# Altium schematic symbol library SCH-27516_C3_16_2_Library.SchLib: 105 symbols (part 2 of 2)
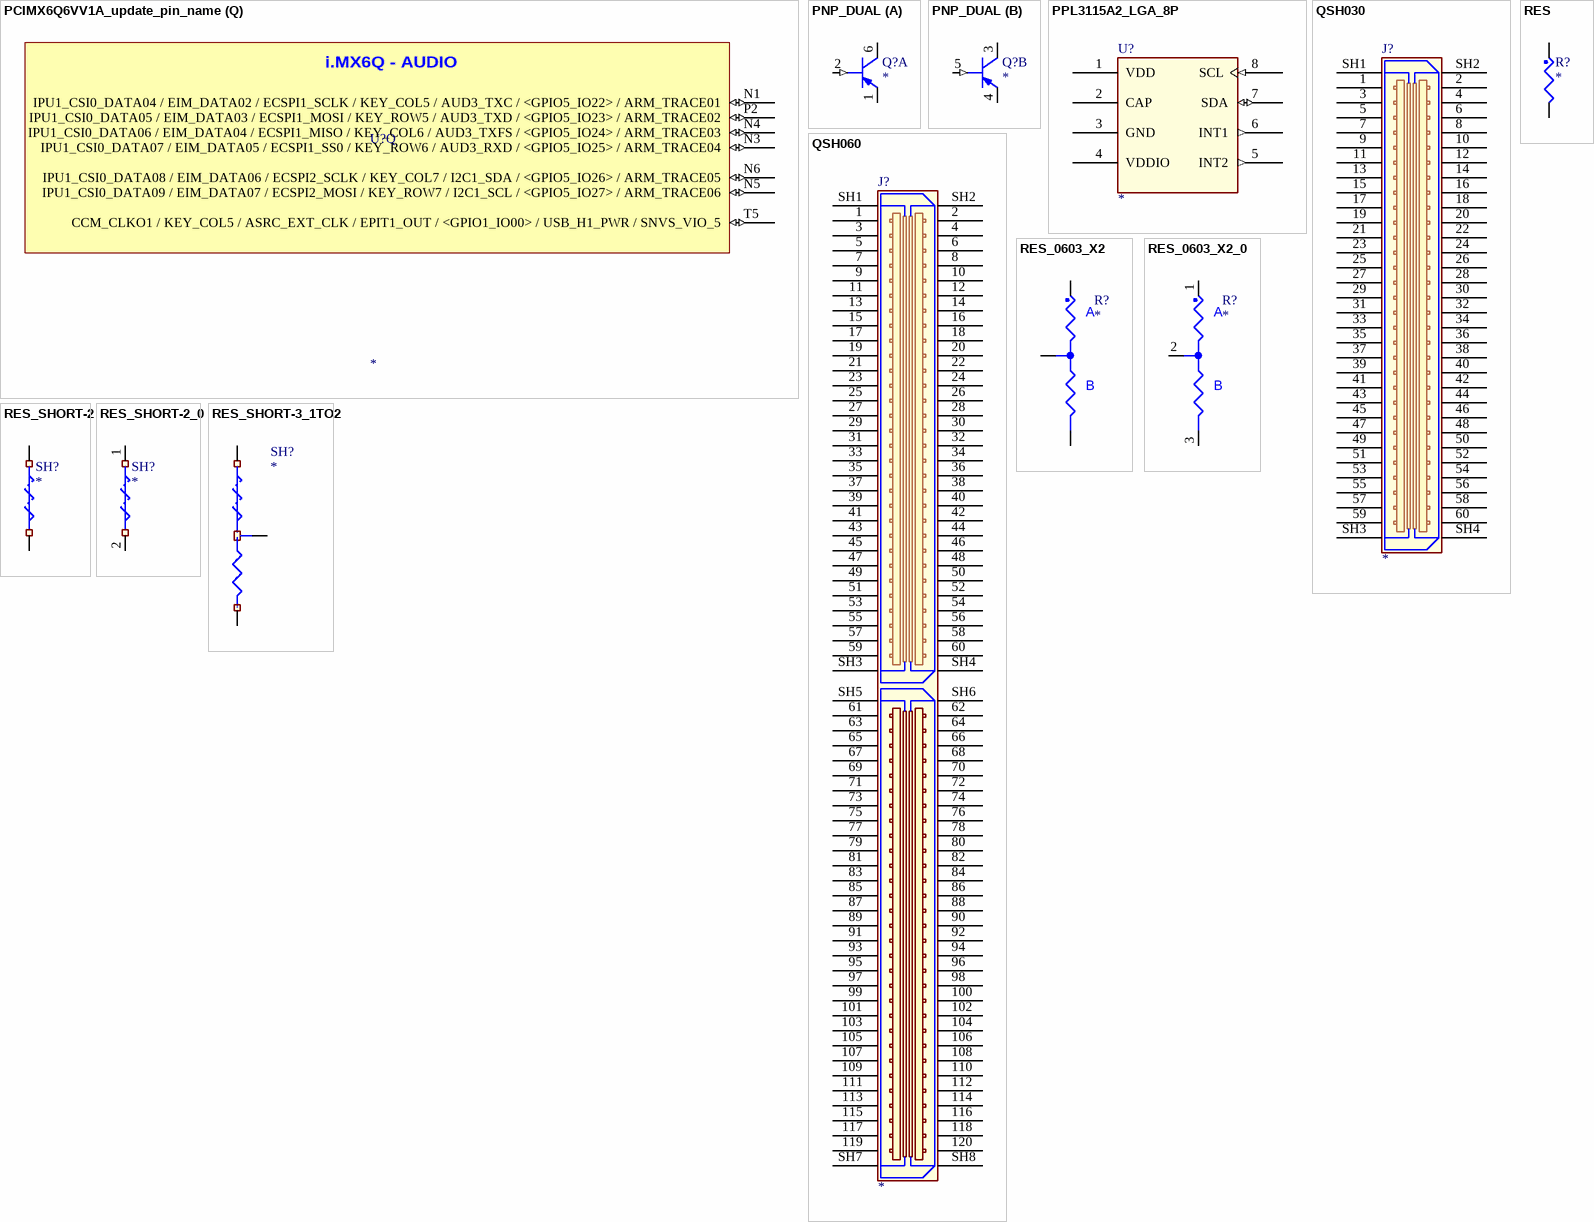
[diagram p16: symbols PCIMX6Q6VV1A_update_pin_name to RES_SHORT-3_1TO2]

## PCIMX6Q6VV1A_update_pin_name
designator U?
CLASS: IC; .Creator: MM
part A pins: C25 EIM_DATA16 / ECSPI1_SCLK / IPU1_DI0_PIN05 / IPU1_CSI1_DATA18 / HDMI_TX_DDC_SDA / <GPIO3_IO16> / I2C2_SDA / EPDC_DATA10 (io), D24 EIM_DATA18 / ECSPI1_MOSI / IPU1_DI0_PIN07 / IPU1_CSI1_DATA17 / IPU1_DI1_D0_CS / <GPIO3_IO18> / I2C3_SDA / EPDC_VCOM1 (io), D25 EIM_DATA23 / IPU1_DI0_D0_CS / UART3_CTS_B / UART1_DCD_B / IPU1_CSI1_DATA_EN / <GPIO3_IO23> / IPU1_DI1_PIN02 / IPU1_DI1_PIN14 / EPDC_DATA11 (io), E22   EIM_EB2 / ECSPI1_SS0 / IPU1_CSI1_DATA19 / HDMI_TX_DDC_SCL / <GPIO2_IO30> / I2C2_SCL / SRC_BOOT_CFG30 / EPDC_DATA05 (io), E23   EIM_DATA22 / ECSPI4_MISO / IPU1_DI0_PIN01 / IPU1_CSI1_DATA10 / USB_OTG_PWR / <GPIO3_IO22> / SPDIF_OUT / EPDC_SDCE6 (io), E24 EIM_DATA26 / IPU1_DI1_PIN11 / IPU1_CSI0_DATA01 / IPU1_CSI1_DATA14 / UART2_TX_DATA / <GPIO3_IO26> / IPU1_SISG2 / IPU1_DISP1_DATA22 / EPDC_SDOED (io), E25 EIM_DATA27 / IPU1_DI1_PIN13 / IPU1_CSI0_DATA00 / IPU1_CSI1_DATA13 / UART2_RX_DATA / <GPIO3_IO27> / IPU1_SISG3 / IPU1_DISP1_DATA23 / EPDC_SDOE (io), F21 EIM_DATA17 / ECSPI1_MISO / IPU1_DI0_PIN06 / IPU1_CSI1_PIXCLK / DCIC1_OUT / <GPIO3_IO17> / I2C3_SCL / EPDC_VCOM0 (io), F22   EIM_DATA24 / ECSPI4_SS2 / UART3_TX_DATA / ECSPI1_SS2 / ECSPI2_SS2 / <GPIO3_IO24> / AUD5_RXFS / UART1_DTR_B / EPDC_SDCE7 (io), F23 EIM_EB3 / ECSPI4_RDY / UART3_RTS_B / UART1_RI_B / IPU1_CSI1_HSYNC / <GPIO2_IO31> / IPU1_DI1_PIN03 / SRC_BOOT_CFG31 / EPDC_SDCE0 / EIM_ACLK_FREERUN (io), F24 <EIM_ADDR22> / PU1_DISP1_DATA17 / IPU1_CSI1_DATA17 / GPIO2_IO16 / SRC_BOOT_CFG22 / EPDC_GDSP (io), F25 <EIM_ADDR24> / IPU1_DISP1_DATA19 / IPU1_CSI1_DATA19 / IPU1_SISG2 / GPIO5_IO04 / SRC_BOOT_CFG24 / EPDC_GDRL (io), G20 EIM_DATA20 / ECSPI4_SS0 / IPU1_DI0_PIN16 / IPU1_CSI1_DATA15 / UART1_RTS_B / <GPIO3_IO20> / EPIT2_OUT (io), G21   EIM_DATA19 / ECSPI1_SS1 / IPU1_DI0_PIN08 / IPU1_CSI1_DATA16 / UART1_CTS_B / <GPIO3_IO19> / EPIT1_OUT / EPDC_DATA12 (io), G22   EIM_DATA25 / ECSPI4_SS3 / UART3_RX_DATA / ECSPI1_SS3 / ECSPI2_SS3 / <GPIO3_IO25> / AUD5_RXC / UART1_DSR_B / EPDC_SDCE8 (io), G23 EIM_DATA28 / I2C1_SDA / ECSPI4_MOSI / IPU1_CSI1_DATA12 / UART2_CTS_B / <GPIO3_IO28> / IPU1_EXT_TRIG / IPU1_DI0_PIN13 / EPDC_PWR_CTRL3 (io), G24 <EIM_ADDR17> / IPU1_DISP1_DATA12 / IPU1_CSI1_DATA12 / GPIO2_IO21 / SRC_BOOT_CFG17 / EPDC_PWR_STAT (io), G25   <EIM_ADDR19> / IPU1_DISP1_DATA14 / IPU1_CSI1_DATA14 / GPIO2_IO19 / SRC_BOOT_CFG19 / EPDC_PWR_CTRL1 (io), H19 <EIM_ADDR25> / ECSPI4_SS1 / ECSPI2_RDY / IPU1_DI1_PIN12 / IPU1_DI0_D1_CS / GPIO5_IO02 / HDMI_TX_CEC_LINE / EPDC_DATA15 / EIM_ACLK_FREERUN (io), H20 EIM_DATA21 / ECSPI4_SCLK / IPU1_DI0_PIN17 / IPU1_CSI1_DATA11 / USB_OTG_OC / <GPIO3_IO21> / I2C1_SCL / SPDIF_IN (io), H21 EIM_DATA31 / IPU1_DISP1_DATA20 / IPU1_DI0_PIN12 / IPU1_CSI0_DATA02 / UART3_RTS_B / <GPIO3_IO31> / USB_H1_PWR / EPDC_SDCLK_P / EIM_ACLK_FREERUN (io), H22 <EIM_ADDR20> / IPU1_DISP1_DATA15 / IPU1_CSI1_DATA15 / GPIO2_IO18 / SRC_BOOT_CFG20 / EPDC_PWR_CTRL2 (io), H23 <EIM_ADDR21> / IPU1_DISP1_DATA16 / IPU1_CSI1_DATA16 / GPIO2_IO17 / SRC_BOOT_CFG21 / EPDC_GDCLK (io), H24 <EIM_CS0> / IPU1_DI1_PIN05 / ECSPI2_SCLK / GPIO2_IO23 / EPDC_DATA06 (io), H25 <EIM_ADDR16> / IPU1_DI1_DISP_CLK / IPU1_CSI1_PIXCLK / GPIO2_IO22 / SRC_BOOT_CFG16 / EPDC_DATA00 (io), J19 EIM_DATA29 / IPU1_DI1_PIN15 / ECSPI4_SS0 / UART2_RTS_B / <GPIO3_IO29> / IPU1_CSI1_VSYNC / IPU1_DI0_PIN14 / EPDC_PWR_WAKE (io), J20   EIM_DATA30 / IPU1_DISP1_DATA21 / IPU1_DI0_PIN11 / IPU1_CSI0_DATA03 / UART3_CTS_B / <GPIO3_IO30> / USB_H1_OC / EPDC_SDOEZ (io), J21 <EIM_ADDR23> / IPU1_DISP1_DATA18 / IPU1_CSI1_DATA18 / IPU1_SISG3 / GPIO6_IO06 / SRC_BOOT_CFG23 / EPDC_GDOE (io), J22 <EIM_ADDR18> / IPU1_DISP1_DATA13 / IPU1_CSI1_DATA13 / GPIO2_IO20 / SRC_BOOT_CFG18 / EPDC_PWR_CTRL0 (io), J23 <EIM_CS1> / IPU1_DI1_PIN06 / ECSPI2_MOSI / GPIO2_IO24 / EPDC_DATA08 (io), J24 <EIM_OE> / IPU1_DI1_PIN07 / ECSPI2_MISO / GPIO2_IO25 / EPDC_PWR_IRQ (io), J25 <EIM_AD01> / IPU1_DISP1_DATA08 / IPU1_CSI1_DATA08 / GPIO3_IO01 / SRC_BOOT_CFG01 / EPDC_SDLE (io), K20   <EIM_RW> / IPU1_DI1_PIN08 / ECSPI2_SS0 / GPIO2_IO26 / SRC_BOOT_CFG29 / EPDC_DATA07 (io), K21 <EIM_EB0> / IPU1_DISP1_DATA11 / IPU1_CSI1_DATA11 / CCM_PMIC_READY / GPIO2_IO28 / SRC_BOOT_CFG27 / EPDC_PWR_COM (io), K22 <EIM_LBA> / IPU1_DI1_PIN17 / ECSPI2_SS1 / GPIO2_IO27 / SRC_BOOT_CFG26 / EPDC_DATA04 (io), K23 <EIM_EB1> / IPU1_DISP1_DATA10 / IPU1_CSI1_DATA10 / GPIO2_IO29 / SRC_BOOT_CFG28 / EPDC_SDSHR (io), K24 <EIM_AD03> / IPU1_DISP1_DATA06 / IPU1_CSI1_DATA06 / GPIO3_IO03 / SRC_BOOT_CFG03 / EPDC_BDR1 (io), K25 <EIM_AD06> / IPU1_DISP1_DATA03 / IPU1_CSI1_DATA03 / GPIO3_IO06 / SRC_BOOT_CFG06 / EPDC_SDCE2 (io), L20 <EIM_AD00> / IPU1_DISP1_DATA09 / IPU1_CSI1_DATA09 / GPIO3_IO00 / SRC_BOOT_CFG00 / EPDC_SDCLK_N (io), L21   <EIM_AD02> / IPU1_DISP1_DATA07 / IPU1_CSI1_DATA07 / GPIO3_IO02 / SRC_BOOT_CFG02 / EPDC_BDR0   (io), L22 <EIM_AD04> / IPU1_DISP1_DATA05 / IPU1_CSI1_DATA05 / GPIO3_IO04 / SRC_BOOT_CFG04 / EPDC_SDCE0 (io), L23 <EIM_AD05> / IPU1_DISP1_DATA04 / IPU1_CSI1_DATA04 / GPIO3_IO05 / SRC_BOOT_CFG05 / EPDC_SDCE1 (io), L24 <EIM_AD08> / IPU1_DISP1_DATA01 / IPU1_CSI1_DATA01 / GPIO3_IO08 / SRC_BOOT_CFG08 / EPDC_SDCE4 (io), L25   <EIM_AD07> / IPU1_DISP1_DATA02 / IPU1_CSI1_DATA02 / GPIO3_IO07 / SRC_BOOT_CFG07 / EPDC_SDCE3 (io), M20   <EIM_AD11> / IPU1_DI1_PIN02 / IPU1_CSI1_HSYNC / GPIO3_IO11 / SRC_BOOT_CFG11 / EPDC_DATA03 (io), M21   <EIM_AD09> / IPU1_DISP1_DATA00 / IPU1_CSI1_DATA00 / GPIO3_IO09 / SRC_BOOT_CFG09 / EPDC_SDCE5   (io), M22   <EIM_AD10> / IPU1_DI1_PIN15 / IPU1_CSI1_DATA_EN / GPIO3_IO10 / SRC_BOOT_CFG10 / EPDC_DATA01 (io), M23 <EIM_AD13> / IPU1_DI1_D0_CS / GPIO3_IO13 / SRC_BOOT_CFG13 / EPDC_DATA13 (io), M24 <EIM_AD12> / IPU1_DI1_PIN03 / IPU1_CSI1_VSYNC / GPIO3_IO12 / SRC_BOOT_CFG12 / EPDC_DATA02 (io), M25 <EIM_WAIT> / EIM_DTACK_B / GPIO5_IO00 / SRC_BOOT_CFG25 (io), N22 <EIM_BCLK> / IPU1_DI1_PIN16 / GPIO6_IO31 / EPDC_SDCE9 (io), N23 <EIM_AD14> / IPU1_DI1_D1_CS / GPIO3_IO14 / SRC_BOOT_CFG14 / EPDC_DATA14 (io), N24 <EIM_AD15> / IPU1_DI1_PIN01 / IPU1_DI1_PIN04 / GPIO3_IO15 / SRC_BOOT_CFG15 / EPDC_DATA09 (io)
part B pins: A9 MLB_SIG_N (io), A10 MLB_DATA_P (io), A11 MLB_CLK_N (in), A15 SD3_DATA2 / <GPIO7_IO06> (io), A16 NAND_ALE / SD4_RESET / <GPIO6_IO08> (io), A17 NAND_CE2_B / IPU1_SISG0 / ESAI_TX0 / EIM_CRE / CCM_CLKO2 / <GPIO6_IO15> (io), A18 NAND_DATA00 / SD1_DATA4 / <GPIO2_IO00> (io), A19 NAND_DATA04 / SD2_DATA4 / <GPIO2_IO04> (io), A20   SD4_DATA3 / <GPIO2_IO11> (io), A21 SD1_DATA0 / GPT_CAPTURE1 / <GPIO1_IO16> (io), A22 SD2_DATA0 / AUD4_RXD / KEY_ROW7 / <GPIO1_IO15> / DCIC2_OUT (io), A23 SD2_DATA2 / EIM_CS3 / AUD4_TXD / KEY_ROW6 / <GPIO1_IO13> (io), B9 MLB_SIG_P (io), B10 MLB_DATA_N (io), B11 MLB_CLK_P (in), B13 SD3_CMD / UART2_CTS_B / FLEXCAN1_TX / <GPIO7_IO02> (io), B15 SD3_DATA3 / UART3_CTS_B / <GPIO7_IO07> (io), B16   NAND_READY / <GPIO6_IO10> (io), B17 SD4_CMD / NAND_RE_B / UART3_TX_DATA / <GPIO7_IO09> (io), B18 NAND_DATA05 / SD2_DATA5 / <GPIO2_IO05> (io), B19 SD4_DATA1 / PWM3_OUT / <GPIO2_IO09> (io), B20   SD4_DATA6 / UART2_CTS_B / <GPIO2_IO14> (io), B21 SD1_CMD / PWM4_OUT / GPT_COMPARE1 / <GPIO1_IO18> (io), B22 SD2_DATA3 / KEY_COL6 / AUD4_TXC / <GPIO1_IO12>   (io), C13 SD3_DATA5 / UART2_TX_DATA / <GPIO7_IO00> (io), C15   NAND_CLE / <GPIO6_IO07> (io), C16 NAND_CE1_B / SD4_VSELECT / SD3_VSELECT / <GPIO6_IO14> (io), C17 NAND_DATA01 / SD1_DATA5 / <GPIO2_IO01> (io), C18 NAND_DATA07 / SD2_DATA7 / <GPIO2_IO07> (io), C19 SD4_DATA5 / UART2_RTS_B / <GPIO2_IO13> (io), C20 SD1_DATA1 / PWM3_OUT / GPT_CAPTURE2 / <GPIO1_IO17> (io), C21 SD2_CLK / KEY_COL5 / AUD4_RXFS / <GPIO1_IO10> (io), D13 SD3_DATA4 / UART2_RX_DATA / <GPIO7_IO01> (io), D14 SD3_CLK / UART2_RTS_B / FLEXCAN1_RX / <GPIO7_IO03> (io), D15 SD3_RESET / UART3_RTS_B / <GPIO7_IO08> (io), D16 NAND_CE3_B / IPU1_SISG1 / ESAI_TX1 / EIM_ADDR26 / <GPIO6_IO16> / I2C4_SDA (io), D17 NAND_DATA03 / SD1_DATA7 / <GPIO2_IO03> (io), D18 SD4_DATA0 / NAND_DQS / <GPIO2_IO08> (io), D19 SD4_DATA7 / UART2_TX_DATA / <GPIO2_IO15> (io), D20 SD1_CLK / GPT_CLKIN / <GPIO1_IO20> (io), E13 SD3_DATA6 / UART1_RX_DATA / <GPIO6_IO18> (io), E14 SD3_DATA0 / UART1_CTS_B / FLEXCAN2_TX / <GPIO7_IO04> (io), E15 ~{NAND_WP} /  <GPIO6_IO09> / I2C4_SCL (io), E16 SD4_CLK / NAND_WE_B / UART3_RX_DATA / <GPIO7_IO10> (io), E17   NAND_DATA06 / SD2_DATA6 / <GPIO2_IO06> (io), E18 SD4_DATA4 / UART2_RX_DATA / <GPIO2_IO12> (io), E19 SD1_DATA2 / GPT_COMPARE2 / PWM2_OUT / WDOG1_B / <GPIO1_IO19> / WDOG1_RESET_B_DEB (io), E20 SD2_DATA1 / EIM_CS2 / AUD4_TXFS / KEY_COL7 / <GPIO1_IO14>   (io), F13 SD3_DATA7 / UART1_TX_DATA / <GPIO6_IO17> (io), F14 SD3_DATA1 / UART1_RTS_B / FLEXCAN2_RX / <GPIO7_IO05> (io), F15 NAND_CE0_B / <GPIO6_IO11> (io), F16 NAND_DATA02 / SD1_DATA6 / <GPIO2_IO02> (io), F17 SD4_DATA2 / PWM4_OUT / <GPIO2_IO10> (io), F18 SD1_DATA3 / GPT_COMPARE3 / PWM1_OUT / WDOG2_B / <GPIO1_IO21> / WDOG2_RESET_B_DEB (io), F19 SD2_CMD / KEY_ROW5 / AUD4_RXC / <GPIO1_IO11> (io), P5 KEY_COL5 / ENET_1588_EVENT0_OUT / SPDIF_OUT / CCM_CLKO1 / ECSPI1_RDY / <GPIO4_IO05> / ENET_TX_ER (io), P6 ESAI_TX1 / ENET_RX_CLK / SD3_VSELECT / SDMA_EXT_EVENT1 / ASRC_EXT_CLK / <GPIO7_IO13> / SNVS_VIO_5_CTL (io), R1 ESAI_TX0 / ENET_1588_EVENT3_IN / CCM_PMIC_READY / SDMA_EXT_EVENT0 / SPDIF_OUT / <GPIO7_IO12> (io), R2 ESAI_TX3_RX2 / ENET_1588_EVENT2_IN / ENET_REF_CLK / SD1_LCTL / SPDIF_IN / <GPIO7_IO11> / I2C3_SDA / JTAG_DE_B (io), R3 ESAI_TX4_RX1 / EPIT1_OUT / FLEXCAN1_TX / UART2_TX_DATA / <GPIO1_IO07> / SPDIF_LOCK / USB_OTG_HOST_MODE / I2C4_SCL (io), R4 ESAI_TX2_RX3 / KEY_ROW7 / CCM_CLKO1 / <GPIO1_IO05> / I2C3_SCL / ARM_EVENTI (io), R5 ESAI_TX5_RX0 / XTALOSC_REF_CLK_32K / EPIT2_OUT / FLEXCAN1_RX / UART2_RX_DATA / <GPIO1_IO08> / SPDIF_SR_CLK / USB_OTG_PWR_CTL_WAKE / I2C4_SDA (io), R6 ESAI_TX_HF_CLK / KEY_COL7 / <GPIO1_IO04> / SD2_CD_B (io), R7 ESAI_RX_HF_CLK / I2C3_SCL / XTALOSC_REF_CLK_24M / CCM_CLKO2 / <GPIO1_IO03> / USB_H1_OC / MLB_CLK (io), T1 ESAI_TX_FS / KEY_ROW6 / <GPIO1_IO02> / SD2_WP / MLB_DATA (io), T2 ESAI_RX_FS / WDOG1_B / KEY_COL6 / CCM_REF_EN_B / PWM1_OUT / <GPIO1_IO09> / SD1_WP (io), T3 ESAI_TX_CLK / I2C3_SDA / <GPIO1_IO06> / SD2_LCTL / MLB_SIG (io), T4 ESAI_RX_CLK / WDOG2_B / KEY_ROW5 / USB_OTG_ID / PWM2_OUT / <GPIO1_IO01> / SD1_CD_B (io), T5 CCM_CLKO1 / KEY_COL5 / ASRC_EXT_CLK / EPIT1_OUT / <GPIO1_IO00> / USB_H1_PWR / SNVS_VIO_5 (io), T6 FLEXCAN2_TX / IPU1_SISG4 / USB_OTG_OC / KEY_COL4 / UART5_RTS_B / <GPIO4_IO14> (io), T7 ASRC_EXT_CLK / HDMI_TX_DDC_SDA / KEY_ROW3 / I2C2_SDA / <GPIO4_IO13> / SD1_VSELECT (io), U5 ECSPI1_SS3 / ENET_CRS / HDMI_TX_DDC_SCL / KEY_COL3 / I2C2_SCL / <GPIO4_IO12> / SPDIF_IN (io), U6 ECSPI1_SS0 / ENET_COL / AUD5_RXD / KEY_ROW1 / UART5_RX_DATA / <GPIO4_IO09> / SD2_VSELECT (io), U7 ECSPI1_MISO / ENET_MDIO / AUD5_TXFS / KEY_COL1 / UART5_TX_DATA / <GPIO4_IO08> / SD1_VSELECT (io), U20 ENET_TX_DATA0 / ESAI_TX4_RX1 / <GPIO1_IO30> (io), U21 ENET_RX_EN / ESAI_TX_CLK / SPDIF_EXT_CLK / <GPIO1_IO25> (io), V5 FLEXCAN2_RX / IPU1_SISG5 / USB_OTG_PWR / KEY_ROW4 / UART5_CTS_B / <GPIO4_IO15> (io), V6 ECSPI1_MOSI / ENET_TX_DATA3 / AUD5_TXD / KEY_ROW0 / UART4_RX_DATA / <GPIO4_IO07> / DCIC2_OUT (io), V20 MLB_DATA / ENET_MDC / ESAI_TX5_RX0 / ENET_1588_EVENT1_IN / <GPIO1_IO31> (io), V21 ENET_TX_EN / ESAI_TX3_RX2 / <GPIO1_IO28> / I2C4_SCL (io), V22 ENET_TX_CLK / ESAI_RX_FS / <GPIO1_IO23> / SPDIF_SR_CLK  (io), V23 ENET_MDIO / ESAI_RX_CLK / ENET_1588_EVENT1_OUT / <GPIO1_IO22> / SPDIF_LOCK (io), W4 ECSPI1_SS2 / ENET_TX_DATA2 / FLEXCAN1_RX / KEY_ROW2 / SD2_VSELECT / <GPIO4_IO11> / HDMI_TX_CEC_LINE (io), W5 ECSPI1_SCLK / ENET_RX_DATA3 / AUD5_TXC / KEY_COL0 / UART4_TX_DATA / <GPIO4_IO06> / DCIC1_OUT (io), W6 ECSPI1_SS1 / ENET_RX_DATA2 / FLEXCAN1_TX / KEY_COL2 / ENET_MDC / <GPIO4_IO10> / USB_H1_PWR_CTL_WAKE (io), W20 MLB_CLK / ENET_TX_DATA1 / ESAI_TX2_RX3 / ENET_1588_EVENT0_IN / <GPIO1_IO29> / I2C4_SDA (io), W21 ENET_RX_DATA0 / ESAI_TX_HF_CLK / SPDIF_OUT / <GPIO1_IO27> (io), W22 MLB_SIG / ENET_RX_DATA1 / ESAI_TX_FS / ENET_1588_EVENT3_OUT / <GPIO1_IO26> (io), W23 USB_OTG_ID / ENET_RX_ER / ESAI_RX_HF_CLK / SPDIF_IN / ENET_1588_EVENT2_OUT / <GPIO1_IO24> (io)
part C pins: A7 XTALOSC_XTALI (in), B7 XTALOSC_XTALO (out), C2 ~{JTAG_TRST} (in), C3 JTAG_TMS (in), C5 XTALOSC_CLK2_N (io), C9 XTALOSC_RTC_XTALO (out), C11 ~{SRC_POR} (in), C12 SRC_BOOT_MODE0 (in), D5 XTALOSC_CLK2_P (io), D9 XTALOSC_RTC_XTALI (in), D11 SNVS_PMIC_ON_REQ (out), D12 SRC_ONOFF (in), E11 SNVS_TAMPER (in), E12 TCU_TEST_MODE (in), F11 CCM_PMIC_STBY_REQ (out), F12 SRC_BOOT_MODE1 (in), G5 JTAG_TDI (in), G6 JTAG_TDO (out), H5 JTAG_TCK (in), H6 JTAG_MOD (in), T1 ESAI_TX_FS / KEY_ROW6 / <GPIO1_IO02> / SD2_WP / MLB_DATA (io), T4 ESAI_RX_CLK / WDOG2_B / KEY_ROW5 / USB_OTG_ID / PWM2_OUT / <GPIO1_IO01> / SD1_CD_B (io), U21 ENET_RX_EN / ESAI_TX_CLK / SPDIF_EXT_CLK / <GPIO1_IO25> (io)
part D pins: D1 CSI_DATA1_N (in), D2 CSI_DATA1_P (in), D4 CSI_REXT (in), E1 CSI_D2M (in), E2 CSI_D2P (in), E3 CSI_DATA0_P (in), E4 CSI_DATA0_N (in), F1 CSI_D3P (in), F2 CSI_D3M (in), F3 CSI_CLK0_P (in), F4 CSI_CLK0_N (in), G1 DSI_DATA0_P (out), G2 DSI_DATA0_N (out), G4 DSI_REXT (in), H1 DSI_DATA1_P (out), H2 DSI_DATA1_N (out), H3 DSI_CLK0_N (out), H4 DSI_CLK0_P (out), L1 IPU1_CSI0_DATA13 / EIM_DATA09 / UART4_RX_DATA / <GPIO5_IO31> / ARM_TRACE10 (io), L3 IPU1_CSI0_DATA17 / EIM_DATA13 / UART4_CTS_B / <GPIO6_IO03> / ARM_TRACE14 (io), L4 IPU1_CSI0_DATA16 / EIM_DATA12 / UART4_RTS_B / <GPIO6_IO02> / ARM_TRACE13 (io), L6 IPU1_CSI0_DATA19 / EIM_DATA15 / UART5_CTS_B / <GPIO6_IO05> (io), M1 IPU1_CSI0_DATA10 / AUD3_RXC / ECSPI2_MISO / UART1_TX_DATA / <GPIO5_IO28> / ARM_TRACE07 (io), M2 IPU1_CSI0_DATA12 / EIM_DATA08 / UART4_TX_DATA / <GPIO5_IO30> / ARM_TRACE09 (io), M3 IPU1_CSI0_DATA11 / AUD3_RXFS / ECSPI2_SS0 / UART1_RX_DATA / <GPIO5_IO29> / ARM_TRACE08 (io), M4 IPU1_CSI0_DATA14 / EIM_DATA10 / UART5_TX_DATA / <GPIO6_IO00> / ARM_TRACE11 (io), M5 IPU1_CSI0_DATA15 / EIM_DATA11 / UART5_RX_DATA / <GPIO6_IO01> / ARM_TRACE12 (io), M6 IPU1_CSI0_DATA18 / EIM_DATA14 / UART5_RTS_B / <GPIO6_IO04> / ARM_TRACE15 (io), N1 IPU1_CSI0_DATA04 / EIM_DATA02 / ECSPI1_SCLK / KEY_COL5 / AUD3_TXC / <GPIO5_IO22> / ARM_TRACE01 (io), N2 IPU1_CSI0_VSYNC / EIM_DATA01 / <GPIO5_IO21> / ARM_TRACE00 (io), N3 IPU1_CSI0_DATA07 / EIM_DATA05 / ECSPI1_SS0 / KEY_ROW6 / AUD3_RXD / <GPIO5_IO25> / ARM_TRACE04 (io), N4 IPU1_CSI0_DATA06 / EIM_DATA04 / ECSPI1_MISO / KEY_COL6 / AUD3_TXFS / <GPIO5_IO24> / ARM_TRACE03 (io), N5 IPU1_CSI0_DATA09 / EIM_DATA07 / ECSPI2_MOSI / KEY_ROW7 / I2C1_SCL / <GPIO5_IO27> / ARM_TRACE06 (io), N6 IPU1_CSI0_DATA08 / EIM_DATA06 / ECSPI2_SCLK / KEY_COL7 / I2C1_SDA / <GPIO5_IO26> / ARM_TRACE05 (io), N19 IPU1_DI0_DISP_CLK / LCD_CLK / <GPIO4_IO16> / LCD_WR_RWN (io), N20 IPU1_DI0_PIN03 / LCD_VSYNC / AUD6_TXFS / <GPIO4_IO19> / LCD_CS (io), N21 IPU1_DI0_PIN15 / LCD_ENABLE / AUD6_TXC / <GPIO4_IO17> / LCD_RD_E (io), N25 IPU1_DI0_PIN02 / LCD_HSYNC / AUD6_TXD / <GPIO4_IO18> / LCD_RS (io), P1 IPU1_CSI0_PIXCLK / <GPIO5_IO18> / ARM_EVENTO (io), P2 IPU1_CSI0_DATA05 / EIM_DATA03 / ECSPI1_MOSI / KEY_ROW5 / AUD3_TXD / <GPIO5_IO23> / ARM_TRACE02 (io), P3 IPU1_CSI0_DATA_EN / EIM_DATA00 / <GPIO5_IO20> / ARM_TRACE_CLK (io), P4 IPU1_CSI0_HSYNC / CCM_CLKO1 / <GPIO5_IO19> / ARM_TRACE_CTL (io), P20 IPU1_DISP0_DATA04 / LCD_DATA04 / ECSPI3_SS1 / <GPIO4_IO25> (io), P21 IPU1_DISP0_DATA03 / LCD_DATA03 / ECSPI3_SS0 / <GPIO4_IO24> (io), P22 IPU1_DISP0_DATA01 / LCD_DATA01 / ECSPI3_MOSI / <GPIO4_IO22> (io), P23 IPU1_DISP0_DATA02 / LCD_DATA02 / ECSPI3_MISO / <GPIO4_IO23> (io), P24 IPU1_DISP0_DATA00 / LCD_DATA00 / ECSPI3_SCLK / <GPIO4_IO21> (io), P25 IPU1_DI0_PIN04 / LCD_BUSY / AUD6_RXD / SD1_WP / <GPIO4_IO20> / LCD_RESET (io), R20 IPU1_DISP0_DATA13 / LCD_DATA13 / AUD5_RXFS / <GPIO5_IO07> (io), R21 IPU1_DISP0_DATA10 / LCD_DATA10 / <GPIO4_IO31> (io), R22 IPU1_DISP0_DATA08 / LCD_DATA08 / PWM1_OUT / WDOG1_B / <GPIO4_IO29> (io), R23 IPU1_DISP0_DATA06 / LCD_DATA06 / ECSPI3_SS3 / AUD6_RXC / <GPIO4_IO27> (io), R24 IPU1_DISP0_DATA07 / LCD_DATA07 / ECSPI3_RDY / <GPIO4_IO28> (io), R25 IPU1_DISP0_DATA05 / LCD_DATA05 / ECSPI3_SS2 / AUD6_RXFS / <GPIO4_IO26> (io), T20 IPU1_DISP0_DATA21 / LCD_DATA21 / ECSPI1_MOSI / AUD4_TXD / <GPIO5_IO15> (io), T21 IPU1_DISP0_DATA16 / LCD_DATA16 / ECSPI2_MOSI / AUD5_TXC / SDMA_EXT_EVENT0 / <GPIO5_IO10> (io), T22 IPU1_DISP0_DATA15 / LCD_DATA15 / ECSPI1_SS1 / ECSPI2_SS1 / <GPIO5_IO09> (io), T23 IPU1_DISP0_DATA11 / LCD_DATA11 / <GPIO5_IO05> (io), T24 IPU1_DISP0_DATA12 / LCD_DATA12 / <GPIO5_IO06> (io), T25 IPU1_DISP0_DATA09 / LCD_DATA09 / PWM2_OUT / WDOG2_B / <GPIO4_IO30> (io), U22 IPU1_DISP0_DATA20 / LCD_DATA20 / ECSPI1_SCLK / AUD4_TXC / <GPIO5_IO14> (io), U23 IPU1_DISP0_DATA19 / LCD_DATA19 / ECSPI2_SCLK / AUD5_RXD / AUD4_RXC / <GPIO5_IO13> / EIM_CS3 (io), U24 IPU1_DISP0_DATA17 / LCD_DATA17 / ECSPI2_MISO / AUD5_TXD / SDMA_EXT_EVENT1 / <GPIO5_IO11> (io), U25 IPU1_DISP0_DATA14 / LCD_DATA14 / AUD5_RXC / <GPIO5_IO08> (io), V24 IPU1_DISP0_DATA22 / LCD_DATA22 / ECSPI1_MISO / AUD4_TXFS / <GPIO5_IO16> (io), V25 IPU1_DISP0_DATA18 / LCD_DATA18 / ECSPI2_SS0 / AUD5_TXFS / AUD4_RXFS / <GPIO5_IO12> / EIM_CS2 (io), W24 IPU1_DISP0_DATA23 / LCD_DATA23 / ECSPI1_SS0 / AUD4_RXD / <GPIO5_IO17> (io)
part E pins: A4 GND_3 (power), A5 FA_ANA (power), A8 GND_4 (power), A13 GND_1 (power), A25 GND_2 (power), AA7 GND_10 (power), AA10 GND_5 (power), AA13 GND_6 (power), AA16 GND_7 (power), AA19 GND_8 (power), AA22 GND_9 (power), AB3 GND_12 (power), AB24 GND_11 (power), AD4 GND_18 (power), AD7 GND_19 (power), AD10 GND_13 (power), AD13 GND_14 (power), AD16 GND_15 (power), AD19 GND_16 (power), AD22 GND_17 (power), AE1 GND_20 (power), AE25 GND_21 (power), B4 GND_22 (power), B5 VDD_FA (power), C1 GND_23 (power), C4 GND_25 (power), C6 GND_26 (power), C8 GPANAIO (power), C10 GND_24 (power), D3 GND_27 (power), D6 GND_28 (power), D8 GND_29 (power), E5 GND_30 (power), E6 GND_31 (power), E7 GND_32 (power), E8 NVCC_PLL_OUT (power), F5 GND_33 (power), F6 GND_34 (power), F7 GND_35 (power), F8 GND_36 (power), G3 GND_39 (power), G9 VDD_SNVS_CAP (power), G10 GND_37 (power), G11 VDD_SNVS_IN (power), G14 NVCC_SD3 (power), G15 NVCC_NANDF (power), G16 NVCC_SD1 (power), G17 NVCC_SD2 (power), G18 NVCC_RGMII (power), G19 GND_38 (power), H8 GND_43 (power), H9 VDDHIGH_IN_1 (power), H10 VDDHIGH_CAP_1 (power), H11 VDDARM23_CAP_1 (power), H12 GND_40 (power), H13 VDDARM_CAP_1 (power), H14 VDDARM_IN_1 (power), H15 GND_41 (power), H16 VDDSOC_IN_1 (power), H17 VDDPU_CAP_1 (power), H18 GND_42 (power), J2 GND_47 (power), J7 NVCC_JTAG (power), J8 GND_48 (power), J9 VDDHIGH_IN_2 (power), J10 VDDHIGH_CAP_2 (power), J11 VDDARM23_CAP_2 (power), J12 GND_44 (power), J13 VDDARM_CAP_2 (power), J14 VDDARM_IN_2 (power), J15 GND_45 (power), J16 VDDSOC_IN_2 (power), J17 VDDPU_CAP_2 (power), J18 GND_46 (power), K7 NVCC_MIPI (power), K8 GND_53 (power), K9 VDDARM23_IN_1 (power), K10 GND_49 (power), K11 VDDARM23_CAP_3 (power), K12 GND_50 (power), K13 VDDARM_CAP_3 (power), K14 VDDARM_IN_3 (power), K15 GND_51 (power), K16 VDDSOC_IN_3 (power), K17 VDDPU_CAP_3 (power), K18 GND_52 (power), K19 NVCC_EIM0 (power), L2 GND_58 (power), L5 GND_59 (power), L8 GND_60 (power), L9 VDDARM23_IN_2 (power), L10 GND_54 (power), L11 VDDARM23_CAP_4 (power), L12 GND_55 (power), L13 VDDARM_CAP_4 (power), L14 VDDARM_IN_4 (power), L15 GND_56 (power), L16 VDDSOC_IN_4 (power), L17 VDDPU_CAP_4 (power), L18 GND_57 (power), L19 NVCC_EIM1 (power), M8 GND_65 (power), M9 VDDARM23_IN_3 (power), M10 GND_61 (power), M11 VDDARM23_CAP_5 (power), M12 GND_62 (power), M13 VDDARM_CAP_5 (power), M14 VDDARM_IN_5 (power), M15 GND_63 (power), M16 VDDSOC_IN_5 (power), M17 VDDPU_CAP_5 (power), M18 GND_64 (power), M19 NVCC_EIM2 (power), N7 NVCC_CSI (power), N8 GND_69 (power), N9 VDDARM23_IN_4 (power), N10 GND_66 (power), N11 VDDARM23_CAP_6 (power), N12 VDD_CACHE_CAP (power), N13 VDDARM_CAP_6 (power), N14 VDDARM_IN_6 (power), N15 GND_67 (power), N16 VDDSOC_IN_6 (power), N17 VDDPU_CAP_6 (power), N18 GND_68 (power), P7 NVCC_GPIO (power), P8 GND_74 (power), P9 VDDARM23_IN_5 (power), P10 GND_70 (power), P11 VDDARM23_CAP_7 (power), P12 GND_71 (power), P13 VDDARM_CAP_7 (power), P14 VDDARM_IN_7 (power), P15 GND_72 (power), P16 VDDSOC_IN_7 (power), P17 VDDPU_CAP_7 (power), P18 GND_73 (power), P19 NVCC_LCD (power), R8 GND_78 (power), R9 VDDARM23_IN_6 (power), R10 VDDSOC_CAP_1 (power), R11 VDDARM23_CAP_8 (power), R12 GND_75 (power), R13 VDDARM_CAP_8 (power), R14 VDDARM_IN_8 (power), R15 GND_76 (power), R16 VDDSOC_IN_8 (power), R17 GND_77 (power), R19 NVCC_ENET (power), T8 GND_84 (power), T9 VDDARM23_IN_7 (power), T10 VDDSOC_CAP_2 (power), T11 GND_79 (power), T12 GND_80 (power), T13 VDDSOC_CAP_3 (power), T14 VDDSOC_CAP_4 (power), T15 GND_81 (power), T16 VDDSOC_IN_9 (power), T17 GND_82 (power), T19 GND_83 (power), U8 GND_89 (power), U9 VDDARM23_IN_8 (power), U10 VDDSOC_CAP_5 (power), U11 GND_85 (power), U12 GND_86 (power), U13 VDDSOC_CAP_6 (power), U14 VDDSOC_CAP_7 (power), U15 GND_87 (power), U16 VDDSOC_IN_10 (power), U17 GND_88 (power), U19 GND_90 (power), V8 GND_91 (power), V19 GND_92 (power), W3 GND_93 (power), W7 GND_94 (power), W8 GND_95 (power), W9 GND_96 (power), W10 GND_97 (power), W11 GND_98 (power), W12 GND_99 (power), W13 GND_100 (power), W15 GND_101 (power), W16 GND_102 (power), W17 GND_103 (power), W18 GND_104 (power), W19 GND_105 (power), Y5 GND_106 (power), Y24 GND_107 (power)
part F pins: A12 SATA_PHY_TX_P (out), A14 SATA_PHY_RX_N (in), B12 SATA_PHY_TX_N (out), B14 SATA_PHY_RX_P (in), C14 SATA_REXT (in), G12 SATA_VPH (power), G13 SATA_VP (power)
part G pins: A6 USB_OTG_DP (io), B6 USB_OTG_DN (io), B8 ~{USB_OTG_CHD_B} (out), D10 USB_H1_VBUS (power), E9 USB_OTG_VBUS (power), E10 USB_H1_DP (io), E23   EIM_DATA22 / ECSPI4_MISO / IPU1_DI0_PIN01 / IPU1_CSI1_DATA10 / USB_OTG_PWR / <GPIO3_IO22> / SPDIF_OUT / EPDC_SDCE6 (io), F9 VDDUSB_CAP (power), F10 USB_H1_DN (io), H20 EIM_DATA21 / ECSPI4_SCLK / IPU1_DI0_PIN17 / IPU1_CSI1_DATA11 / USB_OTG_OC / <GPIO3_IO21> / I2C1_SCL / SPDIF_IN (io), J20   EIM_DATA30 / IPU1_DISP1_DATA21 / IPU1_DI0_PIN11 / IPU1_CSI0_DATA03 / UART3_CTS_B / <GPIO3_IO30> / USB_H1_OC / EPDC_SDOEZ (io), W20 MLB_CLK / ENET_TX_DATA1 / ESAI_TX2_RX3 / ENET_1588_EVENT0_IN / <GPIO1_IO29> / I2C4_SDA (io), W23 USB_OTG_ID / ENET_RX_ER / ESAI_RX_HF_CLK / SPDIF_IN / ENET_1588_EVENT2_OUT / <GPIO1_IO24> (io)
part H pins: A17 NAND_CE2_B / IPU1_SISG0 / ESAI_TX0 / EIM_CRE / CCM_CLKO2 / <GPIO6_IO15> (io), AA1 LVDS1_DATA1_P (out), AA2 LVDS1_DATA1_N (out), AA3 LVDS1_DATA3_N (out), AA4 LVDS1_DATA3_P (out), AB1 LVDS1_DATA2_N (out), AB2 LVDS1_DATA2_P (out), F18 SD1_DATA3 / GPT_COMPARE3 / PWM1_OUT / WDOG2_B / <GPIO1_IO21> / WDOG2_RESET_B_DEB (io), R7 ESAI_RX_HF_CLK / I2C3_SCL / XTALOSC_REF_CLK_24M / CCM_CLKO2 / <GPIO1_IO03> / USB_H1_OC / MLB_CLK (io), T3 ESAI_TX_CLK / I2C3_SDA / <GPIO1_IO06> / SD2_LCTL / MLB_SIG (io), U1 LVDS0_DATA0_P (out), U2 LVDS0_DATA0_N (out), U3 LVDS0_DATA1_P (out), U4 LVDS0_DATA1_N (out), V1 LVDS0_DATA2_P (out), V2 LVDS0_DATA2_N (out), V3 LVDS0_CLK_P (out), V4 LVDS0_CLK_N (out), V7 NVCC_LVDS2P5 (power), W1 LVDS0_DATA3_P (out), W2 LVDS0_DATA3_N (out), Y1 LVDS1_DATA0_N (out), Y2 LVDS1_DATA0_P (out), Y3 LVDS1_CLK_N (out), Y4 LVDS1_CLK_P (out)
part I pins: J1 HDMI_REF (in), J3 HDMI_TX_DATA1_N (out), J4 HDMI_TX_DATA1_P (out), J5 HDMI_TX_CLK_N (out), J6 HDMI_TX_CLK_P (out), K1 HDMI_TX_HPD (in), K2 HDMI_TX_DDC_CEC (io), K3 HDMI_TX_DATA2_N (out), K4 HDMI_TX_DATA2_P (out), K5 HDMI_TX_DATA0_N (out), K6 HDMI_TX_DATA0_P (out), L7 HDMI_VP (power), M7 HDMI_VPH (power), T7 ASRC_EXT_CLK / HDMI_TX_DDC_SDA / KEY_ROW3 / I2C2_SDA / <GPIO4_IO13> / SD1_VSELECT (io), U5 ECSPI1_SS3 / ENET_CRS / HDMI_TX_DDC_SCL / KEY_COL3 / I2C2_SCL / <GPIO4_IO12> / SPDIF_IN (io), W4 ECSPI1_SS2 / ENET_TX_DATA2 / FLEXCAN1_RX / KEY_ROW2 / SD2_VSELECT / <GPIO4_IO11> / HDMI_TX_CEC_LINE (io)
part J pins: AA5 DRAM_D3 (io), AA6 DRAM_D10 (io), AA8 DRAM_D17 (io), AA9 DRAM_D23 (io), AA11 DRAM_SDCKE1 (out), AA12 DRAM_A14 (out), AA14 DRAM_A2 (out), AA15 DRAM_A10 (out), AA17 DRAM_D32 (io), AA18 DRAM_D33 (io), AA20 DRAM_D45 (io), AA21 DRAM_D57 (io), AA23 DRAM_D61 (io), AA24 ~{DRAM_SDQS7} (io), AA25 DRAM_SDQS7 (io), AB4 DRAM_D6 (io), AB5 DRAM_D12 (io), AB6 DRAM_D14 (io), AB7 DRAM_D16 (io), AB8 DRAM_DQM2 (out), AB9 DRAM_D18 (io), AB10 ~{DRAM_SDQS3} (io), AB11 DRAM_D27 (io), AB12 DRAM_SDBA2 (out), AB13 DRAM_A8 (out), AB14 DRAM_A1 (out), AB15 DRAM_RAS (out), AB16 DRAM_SDWE (out), AB17 DRAM_SDODT1 (out), AB18 DRAM_DQM4 (out), AB19 DRAM_D38 (io), AB20 DRAM_D41 (io), AB21 DRAM_D42 (io), AB22 DRAM_D52 (io), AB23 DRAM_D60 (io), AB25 DRAM_D56 (io), AC1 DRAM_D4 (io), AC2 DRAM_VREF (power), AC3 DRAM_DQM0 (out), AC4 DRAM_D2 (io), AC5 DRAM_D13 (io), AC6 DRAM_DQM1 (out), AC7 DRAM_D15 (io), AC8 DRAM_D22 (io), AC9 DRAM_D28 (io), AC10 DRAM_SDQS3 (io), AC11 DRAM_D31 (io), AC12 DRAM_A11 (out), AC13 DRAM_A6 (out), AC14 DRAM_A0 (out), AC15 DRAM_SDBA0 (out), AC16 DRAM_SDODT0 (out), AC17 DRAM_A13 (out), AC18 DRAM_D34 (io), AC19 DRAM_D39 (io), AC20 DRAM_DQM5 (out), AC21 DRAM_D47 (io), AC22 DRAM_D48 (io), AC23 DRAM_D53 (io), AC24 DRAM_D51 (io), AC25 DRAM_D55 (io), AD1 DRAM_D5 (io), AD2 DRAM_D0 (io), AD3 ~{DRAM_SDQS0} (io), AD5 DRAM_D8 (io), AD6 DRAM_SDQS1 (io), AD8 DRAM_SDQS2 (io), AD9 DRAM_D29 (io), AD11 DRAM_D30 (io), AD12 DRAM_A12 (out), AD14 DRAM_SDCLK_1 (out), AD15 DRAM_SDCLK_0 (out), AD17 DRAM_CS1 (out), AD18 DRAM_SDQS4 (io), AD20 DRAM_SDQS5 (io), AD21 DRAM_D43 (io), AD23 DRAM_SDQS6 (io), AD24 DRAM_DQM6 (out), AD25 DRAM_D54 (io), AE2 DRAM_D1 (io), AE3 DRAM_SDQS0 (io), AE4 DRAM_D7 (io), AE5 DRAM_D9 (io), AE6 ~{DRAM_SDQS1} (io), AE7 DRAM_D11 (io), AE8 ~{DRAM_SDQS2} (io), AE9 DRAM_D24 (io), AE10 DRAM_DQM3 (out), AE11 DRAM_D26 (io), AE12 DRAM_A9 (out), AE13 DRAM_A5 (out), AE14 ~{DRAM_SDCLK_1} (out), AE15 ~{DRAM_SDCLK_0} (out), AE16 DRAM_CAS (out), AE17 ZQPAD (in), AE18 ~{DRAM_SDQS4} (io), AE19 DRAM_D35 (io), AE20 ~{DRAM_SDQS5} (io), AE21 DRAM_D46 (io), AE22 DRAM_D49 (io), AE23 ~{DRAM_SDQS6} (io), AE24 DRAM_D50 (io), R18 NVCC_DRAM_1 (power), T18 NVCC_DRAM_2 (power), U18 NVCC_DRAM_3 (power), V9 NVCC_DRAM_13 (power), V10 NVCC_DRAM_4 (power), V11 NVCC_DRAM_5 (power), V12 NVCC_DRAM_6 (power), V13 NVCC_DRAM_7 (power), V14 NVCC_DRAM_8 (power), V15 NVCC_DRAM_9 (power), V16 NVCC_DRAM_10 (power), V17 NVCC_DRAM_11 (power), V18 NVCC_DRAM_12 (power), W14 DRAM_A4 (out), W25 DRAM_D63 (io), Y6 DRAM_RESET (out), Y7 DRAM_D20 (io), Y8 DRAM_D21 (io), Y9 DRAM_D19 (io), Y10 DRAM_D25 (io), Y11 DRAM_SDCKE0 (out), Y12 DRAM_A15 (out), Y13 DRAM_A7 (out), Y14 DRAM_A3 (out), Y15 DRAM_SDBA1 (out), Y16 DRAM_CS0 (out), Y17 DRAM_D36 (io), Y18 DRAM_D37 (io), Y19 DRAM_D40 (io), Y20 DRAM_D44 (io), Y21 DRAM_DQM7 (out), Y22 DRAM_D59 (io), Y23 DRAM_D62 (io), Y25 DRAM_D58 (io)
part K pins: A24 HSI_RX_WAKE / RGMII_TD3 / <GPIO6_IO23> (out), B23 HSI_TX_FLAG / RGMII_RD1 / <GPIO6_IO27> (in), B24 HSI_TX_DATA / RGMII_RD2 / <GPIO6_IO28> (in), B25 USB_H3_STROBE / RGMII_RXC / <GPIO6_IO30> (in), C22 HSI_TX_READY / RGMII_TD0 / <GPIO6_IO20> (out), C23 USB_H2_STROBE / RGMII_TX_CTL / <GPIO6_IO26> / ENET_REF_CLK (out), C24 HSI_RX_READY / RGMII_RD0 / <GPIO6_IO25> (in), D21 USB_H2_DATA / RGMII_TXC / SPDIF_EXT_CLK / <GPIO6_IO19> / XTALOSC_REF_CLK_24M (out), D22 USB_H3_DATA / RGMII_RX_CTL / <GPIO6_IO24> (in), D23 HSI_TX_WAKE / RGMII_RD3 / <GPIO6_IO29> (in), E21 HSI_RX_DATA / RGMII_TD2 / <GPIO6_IO22> (out), F20 HSI_RX_FLAG / RGMII_TD1 / <GPIO6_IO21> (out), V20 MLB_DATA / ENET_MDC / ESAI_TX5_RX0 / ENET_1588_EVENT1_IN / <GPIO1_IO31> (io), V21 ENET_TX_EN / ESAI_TX3_RX2 / <GPIO1_IO28> / I2C4_SCL (io), V22 ENET_TX_CLK / ESAI_RX_FS / <GPIO1_IO23> / SPDIF_SR_CLK  (io), V23 ENET_MDIO / ESAI_RX_CLK / ENET_1588_EVENT1_OUT / <GPIO1_IO22> / SPDIF_LOCK (io), W22 MLB_SIG / ENET_RX_DATA1 / ESAI_TX_FS / ENET_1588_EVENT3_OUT / <GPIO1_IO26> (io)
part L pins: A2 PCIE_REXT (in), A3 PCIE_TX_N (out), B1 PCIE_RX_N (in), B2 PCIE_RX_P (in), B3 PCIE_TX_P (out), C7 XTALOSC_CLK1_N (io), D7 XTALOSC_CLK1_P (io), G7 PCIE_VPH (power), G8 PCIE_VPTX (power), H7 PCIE_VP (power), P3 IPU1_CSI0_DATA_EN / EIM_DATA00 / <GPIO5_IO20> / ARM_TRACE_CLK (io)
part M pins: A22 SD2_DATA0 / AUD4_RXD / KEY_ROW7 / <GPIO1_IO15> / DCIC2_OUT (io), A23 SD2_DATA2 / EIM_CS3 / AUD4_TXD / KEY_ROW6 / <GPIO1_IO13> (io), B22 SD2_DATA3 / KEY_COL6 / AUD4_TXC / <GPIO1_IO12>   (io), C21 SD2_CLK / KEY_COL5 / AUD4_RXFS / <GPIO1_IO10> (io), D17 NAND_DATA03 / SD1_DATA7 / <GPIO2_IO03> (io), E20 SD2_DATA1 / EIM_CS2 / AUD4_TXFS / KEY_COL7 / <GPIO1_IO14>   (io), F16 NAND_DATA02 / SD1_DATA6 / <GPIO2_IO02> (io), F19 SD2_CMD / KEY_ROW5 / AUD4_RXC / <GPIO1_IO11> (io)
part N pins: A15 SD3_DATA2 / <GPIO7_IO06> (io), A18 NAND_DATA00 / SD1_DATA4 / <GPIO2_IO00> (io), B13 SD3_CMD / UART2_CTS_B / FLEXCAN1_TX / <GPIO7_IO02> (io), B15 SD3_DATA3 / UART3_CTS_B / <GPIO7_IO07> (io), C13 SD3_DATA5 / UART2_TX_DATA / <GPIO7_IO00> (io), C17 NAND_DATA01 / SD1_DATA5 / <GPIO2_IO01> (io), D13 SD3_DATA4 / UART2_RX_DATA / <GPIO7_IO01> (io), D14 SD3_CLK / UART2_RTS_B / FLEXCAN1_RX / <GPIO7_IO03> (io), E13 SD3_DATA6 / UART1_RX_DATA / <GPIO6_IO18> (io), E14 SD3_DATA0 / UART1_CTS_B / FLEXCAN2_TX / <GPIO7_IO04> (io), F13 SD3_DATA7 / UART1_TX_DATA / <GPIO6_IO17> (io), F14 SD3_DATA1 / UART1_RTS_B / FLEXCAN2_RX / <GPIO7_IO05> (io)
part O pins: D16 NAND_CE3_B / IPU1_SISG1 / ESAI_TX1 / EIM_ADDR26 / <GPIO6_IO16> / I2C4_SDA (io), E15 ~{NAND_WP} /  <GPIO6_IO09> / I2C4_SCL (io), T21 IPU1_DISP0_DATA16 / LCD_DATA16 / ECSPI2_MOSI / AUD5_TXC / SDMA_EXT_EVENT0 / <GPIO5_IO10> (io), U6 ECSPI1_SS0 / ENET_COL / AUD5_RXD / KEY_ROW1 / UART5_RX_DATA / <GPIO4_IO09> / SD2_VSELECT (io), U7 ECSPI1_MISO / ENET_MDIO / AUD5_TXFS / KEY_COL1 / UART5_TX_DATA / <GPIO4_IO08> / SD1_VSELECT (io), U23 IPU1_DISP0_DATA19 / LCD_DATA19 / ECSPI2_SCLK / AUD5_RXD / AUD4_RXC / <GPIO5_IO13> / EIM_CS3 (io), U24 IPU1_DISP0_DATA17 / LCD_DATA17 / ECSPI2_MISO / AUD5_TXD / SDMA_EXT_EVENT1 / <GPIO5_IO11> (io), V6 ECSPI1_MOSI / ENET_TX_DATA3 / AUD5_TXD / KEY_ROW0 / UART4_RX_DATA / <GPIO4_IO07> / DCIC2_OUT (io), V25 IPU1_DISP0_DATA18 / LCD_DATA18 / ECSPI2_SS0 / AUD5_TXFS / AUD4_RXFS / <GPIO5_IO12> / EIM_CS2 (io), W5 ECSPI1_SCLK / ENET_RX_DATA3 / AUD5_TXC / KEY_COL0 / UART4_TX_DATA / <GPIO4_IO06> / DCIC1_OUT (io)
part P pins: B20   SD4_DATA6 / UART2_CTS_B / <GPIO2_IO14> (io), C19 SD4_DATA5 / UART2_RTS_B / <GPIO2_IO13> (io), D19 SD4_DATA7 / UART2_TX_DATA / <GPIO2_IO15> (io), D25 EIM_DATA23 / IPU1_DI0_D0_CS / UART3_CTS_B / UART1_DCD_B / IPU1_CSI1_DATA_EN / <GPIO3_IO23> / IPU1_DI1_PIN02 / IPU1_DI1_PIN14 / EPDC_DATA11 (io), E18 SD4_DATA4 / UART2_RX_DATA / <GPIO2_IO12> (io), F22   EIM_DATA24 / ECSPI4_SS2 / UART3_TX_DATA / ECSPI1_SS2 / ECSPI2_SS2 / <GPIO3_IO24> / AUD5_RXFS / UART1_DTR_B / EPDC_SDCE7 (io), F23 EIM_EB3 / ECSPI4_RDY / UART3_RTS_B / UART1_RI_B / IPU1_CSI1_HSYNC / <GPIO2_IO31> / IPU1_DI1_PIN03 / SRC_BOOT_CFG31 / EPDC_SDCE0 / EIM_ACLK_FREERUN (io), G20 EIM_DATA20 / ECSPI4_SS0 / IPU1_DI0_PIN16 / IPU1_CSI1_DATA15 / UART1_RTS_B / <GPIO3_IO20> / EPIT2_OUT (io), G21   EIM_DATA19 / ECSPI1_SS1 / IPU1_DI0_PIN08 / IPU1_CSI1_DATA16 / UART1_CTS_B / <GPIO3_IO19> / EPIT1_OUT / EPDC_DATA12 (io), G22   EIM_DATA25 / ECSPI4_SS3 / UART3_RX_DATA / ECSPI1_SS3 / ECSPI2_SS3 / <GPIO3_IO25> / AUD5_RXC / UART1_DSR_B / EPDC_SDCE8 (io), M1 IPU1_CSI0_DATA10 / AUD3_RXC / ECSPI2_MISO / UART1_TX_DATA / <GPIO5_IO28> / ARM_TRACE07 (io), M3 IPU1_CSI0_DATA11 / AUD3_RXFS / ECSPI2_SS0 / UART1_RX_DATA / <GPIO5_IO29> / ARM_TRACE08 (io)
part Q pins: N1 IPU1_CSI0_DATA04 / EIM_DATA02 / ECSPI1_SCLK / KEY_COL5 / AUD3_TXC / <GPIO5_IO22> / ARM_TRACE01 (io), N3 IPU1_CSI0_DATA07 / EIM_DATA05 / ECSPI1_SS0 / KEY_ROW6 / AUD3_RXD / <GPIO5_IO25> / ARM_TRACE04 (io), N4 IPU1_CSI0_DATA06 / EIM_DATA04 / ECSPI1_MISO / KEY_COL6 / AUD3_TXFS / <GPIO5_IO24> / ARM_TRACE03 (io), N5 IPU1_CSI0_DATA09 / EIM_DATA07 / ECSPI2_MOSI / KEY_ROW7 / I2C1_SCL / <GPIO5_IO27> / ARM_TRACE06 (io), N6 IPU1_CSI0_DATA08 / EIM_DATA06 / ECSPI2_SCLK / KEY_COL7 / I2C1_SDA / <GPIO5_IO26> / ARM_TRACE05 (io), P2 IPU1_CSI0_DATA05 / EIM_DATA03 / ECSPI1_MOSI / KEY_ROW5 / AUD3_TXD / <GPIO5_IO23> / ARM_TRACE02 (io), T5 CCM_CLKO1 / KEY_COL5 / ASRC_EXT_CLK / EPIT1_OUT / <GPIO1_IO00> / USB_H1_PWR / SNVS_VIO_5 (io)
part A text: i.MX6Q - EIM
part B text: i.MX6Q
part C text: i.MX6Q - CONTROL
part D text: i.MX6Q - DISP; CSI
part E text: i.MX6Q - POWER
part F text: i.MX6Q - SATA
part G text: i.MX6Q - USB
part H text: i.MX6Q - LVDS
part I text: i.MX6Q - HDMI
part J text: i.MX6Q - DDR
part K text: i.MX6Q - RGMII
part L text: i.MX6Q - PCIe
part M text: i.MX6Q - SD CARD
part N text: i.MX6Q - MMC CARD
part O text: i.MX6Q - SPI, I2C; SPINOR; ECSPI2; I2C4
part P text: i.MX6Q - UART; NVCC_UART1; NVCC_UART2
part Q text: i.MX6Q - AUDIO

## PNP_DUAL
designator Q?
CLASS: IC
part A pins: 1 EMITTER, 2 BASE (in), 6 COLLECTOR
part B pins: 3 COLLECTOR, 4 EMITTER, 5 BASE (in)

## PPL3115A2_LGA_8P
designator U?
CLASS: IC
pins: 1 VDD (power), 2 CAP, 3 GND (power), 4 VDDIO (power), 5 INT2 (out), 6 INT1 (out), 7 SDA (io), 8 SCL (in)

## QSH030
designator J?
CLASS: IO
pins: 1, 2, 3, 4, 5, 6, 7, 8, 9, 10, 11, 12, 13, 14, 15, 16, 17, 18, 19, 20, 21, 22, 23, 24, 25, 26, 27, 28, 29, 30, 31, 32, 33, 34, 35, 36, 37, 38, 39, 40, 41, 42, 43, 44, 45, 46, 47, 48, 49, 50, 51, 52, 53, 54, 55, 56, 57, 58, 59, 60, SH1, SH2, SH3, SH4

## QSH060
designator J?
CLASS: IO
pins: 1, 2, 3, 4, 5, 6, 7, 8, 9, 10, 11, 12, 13, 14, 15, 16, 17, 18, 19, 20, 21, 22, 23, 24, 25, 26, 27, 28, 29, 30, 31, 32, 33, 34, 35, 36, 37, 38, 39, 40, 41, 42, 43, 44, 45, 46, 47, 48, 49, 50, 51, 52, 53, 54, 55, 56, 57, 58, 59, 60, 61, 62, 63, 64, 65, 66, 67, 68, 69, 70, 71, 72, 73, 74, 75, 76, 77, 78, 79, 80, 81, 82, 83, 84, 85, 86, 87, 88, 89, 90, 91, 92, 93, 94, 95, 96, 97, 98, 99, 100, 101, 102, 103, 104, 105, 106, 107, 108, 109, 110, 111, 112, 113, 114, 115, 116, 117, 118, 119, 120, SH1, SH2, SH3, SH4, SH5, SH6, SH7, SH8

## RES
designator R?
CLASS: DISCRETE
pins: 1, 2

## RES_0603_X2
designator R?
CLASS: DISCRETE
pins: 1, 2, 3
text: A; B

## RES_0603_X2_0
designator R?
CLASS: DISCRETE
pins: 1, 2, 3
text: A; B

## RES_SHORT-2
designator SH?
CLASS: DISCRETE
pins: 1, 2

## RES_SHORT-2_0
designator SH?
CLASS: DISCRETE
pins: 1, 2

## RES_SHORT-3_1TO2
designator SH?
CLASS: DISCRETE
pins: 1, 2, 3

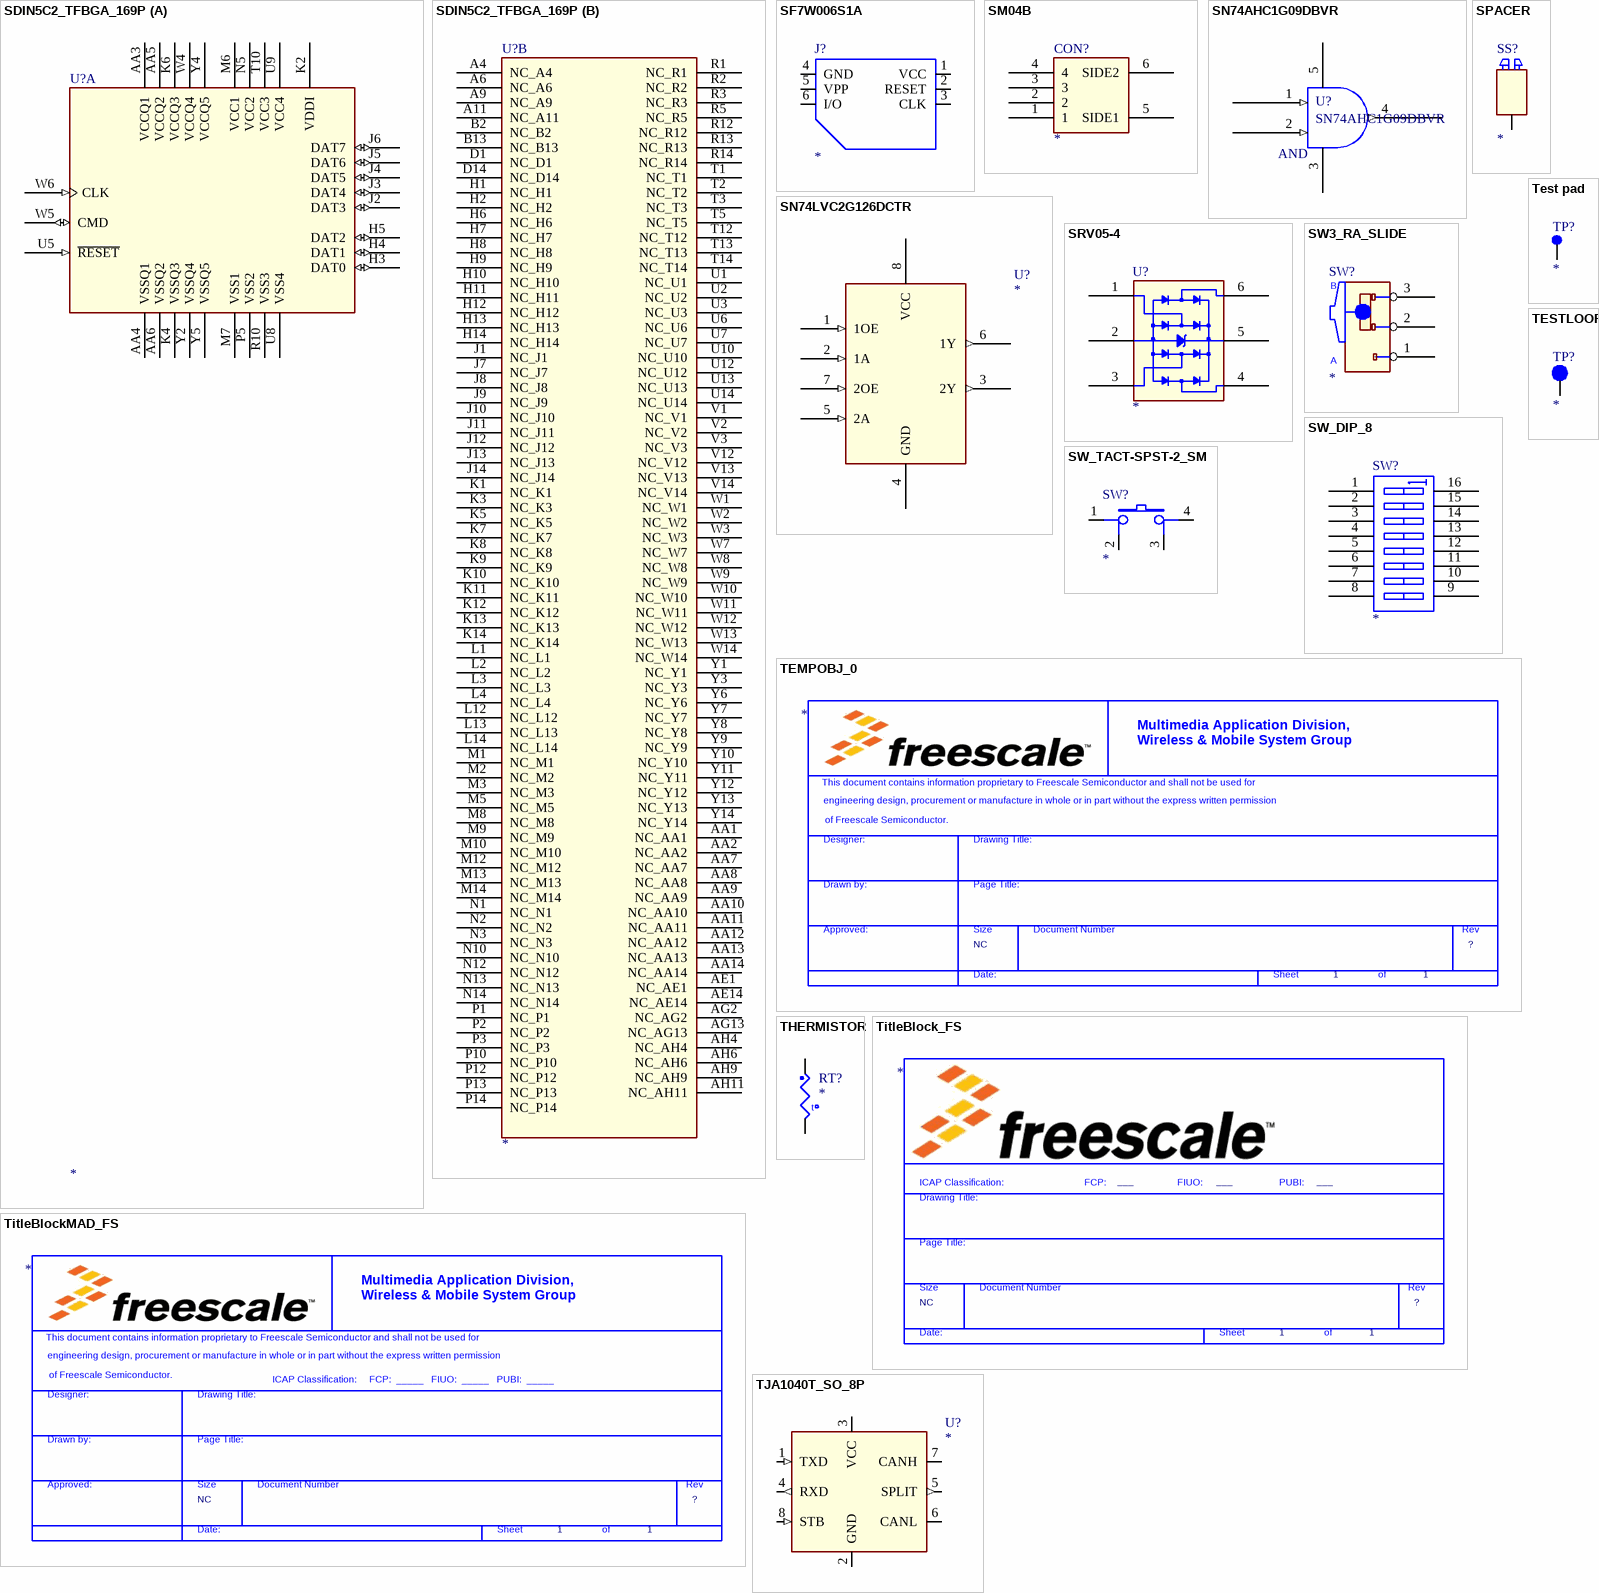
[diagram p14: symbols SDIN5C2_TFBGA_169P to TJA1040T_SO_8P]

## SDIN5C2_TFBGA_169P
designator U?
CLASS: IC
part A pins: AA3 VCCQ1 (power), AA4 VSSQ1 (power), AA5 VCCQ2 (power), AA6 VSSQ2 (power), H3 DAT0 (io), H4 DAT1 (io), H5 DAT2 (io), J2 DAT3 (io), J3 DAT4 (io), J4 DAT5 (io), J5 DAT6 (io), J6 DAT7 (io), K2 VDDI (power), K4 VSSQ3 (power), K6 VCCQ3 (power), M6 VCC1 (power), M7 VSS1 (power), N5 VCC2 (power), P5 VSS2 (power), R10 VSS3 (power), T10 VCC3 (power), U5 ~{RESET} (in), U8 VSS4 (power), U9 VCC4 (power), W4 VCCQ4 (power), W5 CMD (io), W6 CLK (in), Y2 VSSQ4 (power), Y4 VCCQ5 (power), Y5 VSSQ5 (power)
part B pins: A4 NC_A4, A6 NC_A6, A9 NC_A9, A11 NC_A11, AA1 NC_AA1, AA2 NC_AA2, AA7 NC_AA7, AA8 NC_AA8, AA9 NC_AA9, AA10 NC_AA10, AA11 NC_AA11, AA12 NC_AA12, AA13 NC_AA13, AA14 NC_AA14, AE1 NC_AE1, AE14 NC_AE14, AG2 NC_AG2, AG13 NC_AG13, AH4 NC_AH4, AH6 NC_AH6, AH9 NC_AH9, AH11 NC_AH11, B2 NC_B2, B13 NC_B13, D1 NC_D1, D14 NC_D14, H1 NC_H1, H2 NC_H2, H6 NC_H6, H7 NC_H7, H8 NC_H8, H9 NC_H9, H10 NC_H10, H11 NC_H11, H12 NC_H12, H13 NC_H13, H14 NC_H14, J1 NC_J1, J7 NC_J7, J8 NC_J8, J9 NC_J9, J10 NC_J10, J11 NC_J11, J12 NC_J12, J13 NC_J13, J14 NC_J14, K1 NC_K1, K3 NC_K3, K5 NC_K5, K7 NC_K7, K8 NC_K8, K9 NC_K9, K10 NC_K10, K11 NC_K11, K12 NC_K12, K13 NC_K13, K14 NC_K14, L1 NC_L1, L2 NC_L2, L3 NC_L3, L4 NC_L4, L12 NC_L12, L13 NC_L13, L14 NC_L14, M1 NC_M1, M2 NC_M2, M3 NC_M3, M5 NC_M5, M8 NC_M8, M9 NC_M9, M10 NC_M10, M12 NC_M12, M13 NC_M13, M14 NC_M14, N1 NC_N1, N2 NC_N2, N3 NC_N3, N10 NC_N10, N12 NC_N12, N13 NC_N13, N14 NC_N14, P1 NC_P1, P2 NC_P2, P3 NC_P3, P10 NC_P10, P12 NC_P12, P13 NC_P13, P14 NC_P14, R1 NC_R1, R2 NC_R2, R3 NC_R3, R5 NC_R5, R12 NC_R12, R13 NC_R13, R14 NC_R14, T1 NC_T1, T2 NC_T2, T3 NC_T3, T5 NC_T5, T12 NC_T12, T13 NC_T13, T14 NC_T14, U1 NC_U1, U2 NC_U2, U3 NC_U3, U6 NC_U6, U7 NC_U7, U10 NC_U10, U12 NC_U12, U13 NC_U13, U14 NC_U14, V1 NC_V1, V2 NC_V2, V3 NC_V3, V12 NC_V12, V13 NC_V13, V14 NC_V14, W1 NC_W1, W2 NC_W2, W3 NC_W3, W7 NC_W7, W8 NC_W8, W9 NC_W9, W10 NC_W10, W11 NC_W11, W12 NC_W12, W13 NC_W13, W14 NC_W14, Y1 NC_Y1, Y3 NC_Y3, Y6 NC_Y6, Y7 NC_Y7, Y8 NC_Y8, Y9 NC_Y9, Y10 NC_Y10, Y11 NC_Y11, Y12 NC_Y12, Y13 NC_Y13, Y14 NC_Y14

## SF7W006S1A
designator J?
CLASS: IO
pins: 1 VCC (power), 2 RESET, 3 CLK, 4 GND (power), 5 VPP, 6 I/O (io)

## SM04B
designator CON?
CLASS: IO
pins: 1, 2, 3, 4, 5 SIDE1, 6 SIDE2

## SN74AHC1G09DBVR
designator U?
IC GATE AND SGL 2INP SOT23-5; Manufacturer: Texas Instruments; Logic Type: AND Gate; Number of Circuits: 1; Number of Inputs: 2; Voltage - Supply: 2 V ~ 5.5 V; Current - Quiescent (Max): 1µA; Current - Output High, Low: -, 8mA; Logic Level - Low: 0.5 V ~ 1.65 V; Logic Level - High: 1.5 V ~ 3.85 V; Max Propagation Delay @ V, Max CL: 7.5ns @ 5V, 50pF; .Creator: MM; Supplier 1: Digi-Key; Manufacturer Part Number: SN74AHC1G09DBVR; RoHS: RoHS Compliant; Category: Integrated Circuits (ICs); Stock 1: 3468; Pricing 1: 1=0.49, 10=0.345, 25=0.2836, 100=0.2265, 250=0.165, 500=0.134, 1000=0.103 (USD); Features: Open Drain; Operating Temperature: -55°C ~ 125°C; Mounting Type: Surface Mount; Supplier Device Package: SOT-23-5; Package / Case: SC-74A, SOT-753; Packaging: Cut Tape (CT); ComponentLink1URL: http://www.ti.com/lit/ds/symlink/sn74ahc1g09.pdf; ComponentLink1Description: http://www.ti.com/lit/ds/symlink/sn74ahc1g09.pdf; Supplier Part Number 1: 296-29202-1-ND
pins: 1 A (in), 2 B (in), 3 GND (power), 4 Y (out), 5 VCC (power)
text: AND

## SN74LVC2G126DCTR
designator U?
CLASS: IC
pins: 1 1OE (in), 2 1A (in), 3 2Y (out), 4 GND (power), 5 2A (in), 6 1Y (out), 7 2OE (in), 8 VCC (power)

## SPACER
designator SS?
CLASS: IC
pins: 1 NC_1

## SRV05-4
designator U?
CLASS: IC
pins: 1 I/O1, 2 GND, 3 I/O3, 4 I/O4, 5 VCC, 6 I/O6

## SW3_RA_SLIDE
designator SW?
CLASS: IC
pins: 1 NO, 2 COM, 3 NC
text: B; A

## SW_DIP_8
designator SW?
CLASS: IC
pins: 1, 2, 3, 4, 5, 6, 7, 8, 9, 10, 11, 12, 13, 14, 15, 16

## SW_TACT-SPST-2_SM
designator SW?
CLASS: IC
pins: 1, 2, 3, 4

## TEMPOBJ_0
designator *  Page Size: NC  Page Number: 1  (graphical)
Page Create Date: March  8, 1995; RevCode: ?; Page Count: 1
text: Multimedia Application Division, / Wireless & Mobile System Group; This document contains information proprietary to Freescale Semiconductor and shall not be used for; engineering design, procurement or manufacture in whole or in part without the express written permission; of Freescale Semiconductor.; Designer:; Drawing Title:; Drawn by:; Page Title:; Approved:; Size; Document Number; Rev; Date:; Sheet; of

## Test pad
designator TP?
CLASS: IC
pins: 1 Pin1

## TESTLOOP
designator TP?
CLASS: IO
pins: 1 Pin1

## THERMISTOR
designator RT?
CLASS: DISCRETE
pins: 1, 2
text: t

## TitleBlock_FS
designator *  FIUO: ___  Page Size: NC  Page Number: 1  (graphical)
Page Create Date: March  8, 1995; PUBI: ___; FCP: ___; RevCode: ?; Page Count: 1
text: ICAP Classification:; FCP:; FIUO:; PUBI:; Drawing Title:; Page Title:; Size; Document Number; Rev; Date:; Sheet; of

## TitleBlockMAD_FS
designator *  Page Count: 1  Page Size: NC  (graphical)
Page Create Date: March  8, 1995; Page Number: 1; RevCode: ?
text: Multimedia Application Division, / Wireless & Mobile System Group; This document contains information proprietary to Freescale Semiconductor and shall not be used for; engineering design, procurement or manufacture in whole or in part without the express written permission; of Freescale Semiconductor.; ICAP Classification:     FCP:  _____   FIUO:  _____   PUBI:  _____; Designer:; Drawing Title:; Drawn by:; Page Title:; Approved:; Size; Document Number; Rev; Date:; Sheet; of

## TJA1040T_SO_8P
designator U?
CLASS: IC
pins: 1 TXD (in), 2 GND (power), 3 VCC (power), 4 RXD (out), 5 SPLIT (out), 6 CANL (io), 7 CANH (io), 8 STB (in)

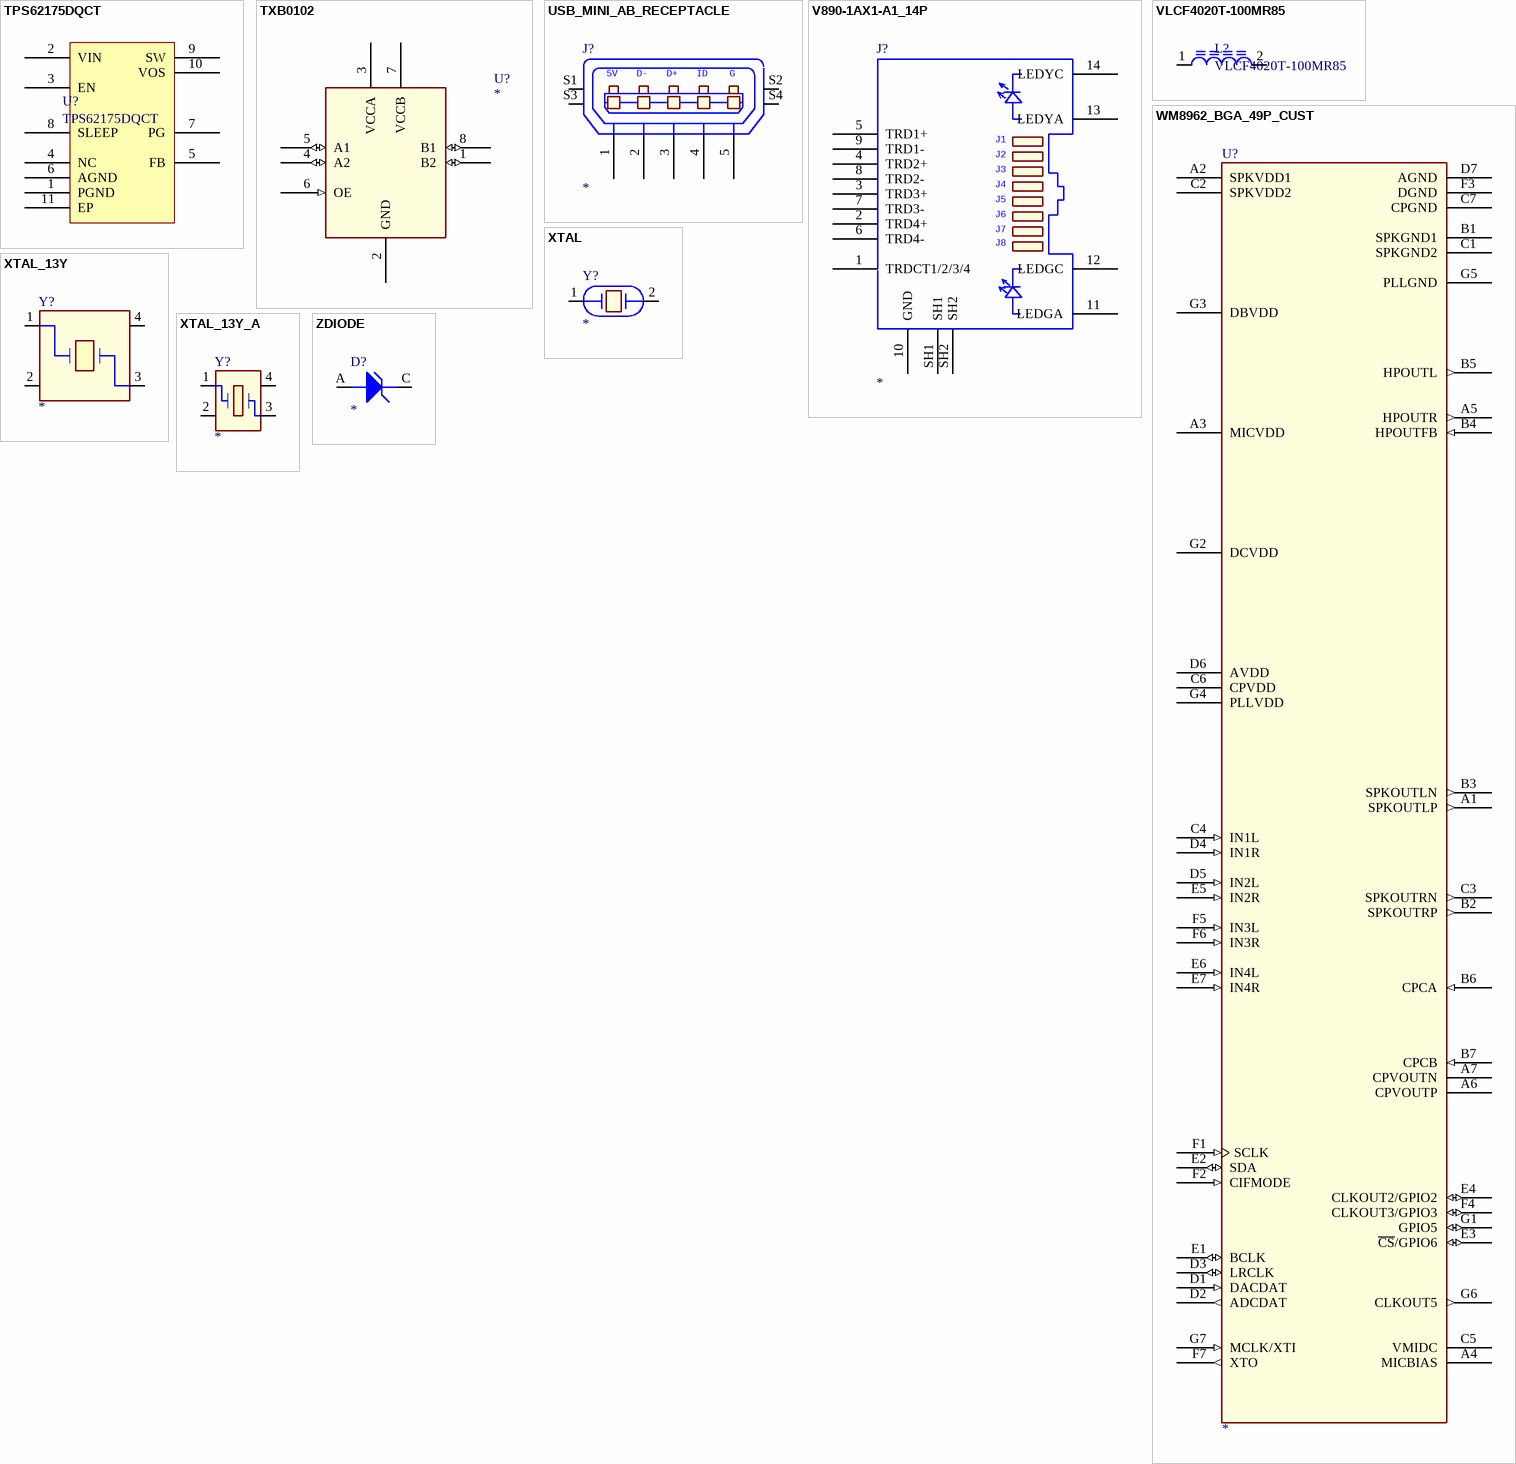
[diagram p15: symbols TPS62175DQCT to ZDIODE]

## TPS62175DQCT
designator U?
IC REG BUCK SYNC ADJ 0.5A 10WSON; Manufacturer: Texas Instruments; Output Type: Adjustable; Number of Outputs: 1; Voltage - Output: 1 V ~ 6 V; Voltage - Input: 4.75 V ~ 28 V; PWM Type: Hybrid; Frequency - Switching: 1MHz; Current - Output: 500mA; Synchronous Rectifier: Yes; Supplier 1: Digi-Key; Manufacturer Part Number: TPS62175DQCT; RoHS: RoHS Compliant; Category: Integrated Circuits (ICs); Stock 1: 592; Pricing 1: 1=3.13, 10=2.825, 25=2.5308, 100=1.3244 (USD); Type: Step-Down (Buck); Operating Temperature: -40°C ~ 85°C; Mounting Type: Surface Mount; Package / Case: 10-WFDFN Exposed Pad; Packaging: Cut Tape (CT); Supplier Device Package: 10-WSON Exposed Pad (3x2); ComponentLink1URL: http://www.ti.com/lit/ds/symlink/tps62175.pdf; ComponentLink1Description: http://www.ti.com/lit/ds/symlink/tps62175.pdf; Supplier Part Number 1: 296-35096-1-ND; .Created: MM
pins: 1 PGND, 2 VIN, 3 EN, 4 NC, 5 FB, 6 AGND, 7 PG, 8 SLEEP, 9 SW, 10 VOS, 11 EP

## TXB0102
designator U?
CLASS: IC
pins: 1 B2 (io), 2 GND (power), 3 VCCA (power), 4 A2 (io), 5 A1 (io), 6 OE (in), 7 VCCB (power), 8 B1 (io)

## USB_MINI_AB_RECEPTACLE
designator J?
CLASS: IO
pins: 1 P1, 2 P2, 3 P3, 4 P4, 5 P5, S1 SHLD1, S2 SHLD2, S3 SHLD3, S4 SHLD4
text: 5V; D-; D+; ID; G

## V890-1AX1-A1_14P
designator J?
CLASS: IO
pins: 1 TRDCT1/2/3/4, 2 TRD4+, 3 TRD3+, 4 TRD2+, 5 TRD1+, 6 TRD4-, 7 TRD3-, 8 TRD2-, 9 TRD1-, 10 GND (power), 11 LEDGA, 12 LEDGC, 13 LEDYA, 14 LEDYC, SH1, SH2
text: J1; J2; J3; J4; J5; J6; J7; J8

## VLCF4020T-100MR85
designator L?
INDUCTOR POWER 10UH .85A SMD; Manufacturer: TDK Corporation; Inductance: 10µH; Current Rating: 850mA; Tolerance: ±20%; Shielding: Shielded; DC Resistance (DCR): 185 mOhm Max; Frequency - Test: 100kHz; .Creator: MM; Supplier 1: Digi-Key; Manufacturer Part Number: VLCF4020T-100MR85; RoHS: RoHS Compliant; Category: Inductors, Coils, Chokes; Stock 1: 53975; Pricing 1: 1=0.77, 10=0.68, 50=0.5526, 100=0.51, 500=0.442 (USD); Type: -; Current - Saturation: 850mA; Material - Core: -; Q @ Freq: -; Frequency - Self Resonant: -; Operating Temperature: -40°C ~ 105°C; Package / Case: Non Standard; Size / Dimension: 0.157" L x 0.157" W x 0.079" H (4.00mm x 4.00mm x 2.00mm); Mounting Type: Surface Mount; Packaging: Cut Tape (CT); ComponentLink1URL: http://www.tdk.co.jp/tefe02/e531_vlcf.pdf; ComponentLink1Description: http://www.tdk.co.jp/tefe02/e531_vlcf.pdf; Supplier Part Number 1: 445-3186-1-ND
pins: 1, 2

## WM8962_BGA_49P_CUST
designator U?
CLASS: IC
footprint bga49_0p5_3p62x4
pins: A1 SPKOUTLP (out), A2 SPKVDD1 (power), A3 MICVDD (power), A4 MICBIAS, A5 HPOUTR (out), A6 CPVOUTP (power), A7 CPVOUTN (power), B1 SPKGND1 (power), B2 SPKOUTRP (out), B3 SPKOUTLN (out), B4 HPOUTFB (in), B5 HPOUTL (out), B6 CPCA (in), B7 CPCB (in), C1 SPKGND2 (power), C2 SPKVDD2 (power), C3 SPKOUTRN (out), C4 IN1L (in), C5 VMIDC (power), C6 CPVDD (power), C7 CPGND (power), D1 DACDAT (in), D2 ADCDAT (out), D3 LRCLK (io), D4 IN1R (in), D5 IN2L (in), D6 AVDD (power), D7 AGND (power), E1 BCLK (io), E2 SDA (io), E3 ~{CS}/GPIO6 (io), E4 CLKOUT2/GPIO2 (io), E5 IN2R (in), E6 IN4L (in), E7 IN4R (in), F1 SCLK (in), F2 CIFMODE (in), F3 DGND (power), F4 CLKOUT3/GPIO3 (io), F5 IN3L (in), F6 IN3R (in), F7 XTO (out), G1 GPIO5 (io), G2 DCVDD (power), G3 DBVDD (power), G4 PLLVDD (power), G5 PLLGND (power), G6 CLKOUT5 (out), G7 MCLK/XTI (in)

## XTAL
designator Y?
CLASS: IC
pins: 1, 2

## XTAL_13Y
designator Y?
CLASS: IC
pins: 1, 2 (power), 3, 4 (power)

## XTAL_13Y_A
designator Y?
CLASS: IC
pins: 1, 2, 3, 4

## ZDIODE
designator D?
CLASS: IC
pins: A ANODE, C CATHODE